# Altium schematic symbol library L127H-330M.Schlib: 1 symbol
Pins are listed as number, name and electrical type; pins without a type are passive.

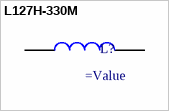
[diagram p0: symbol L127H-330M]

## L127H-330M
designator L?
=Description
pins: 1, 2